# Altium schematic symbol library SMD_Passives.SchLib: 174 symbols (part 2 of 2)
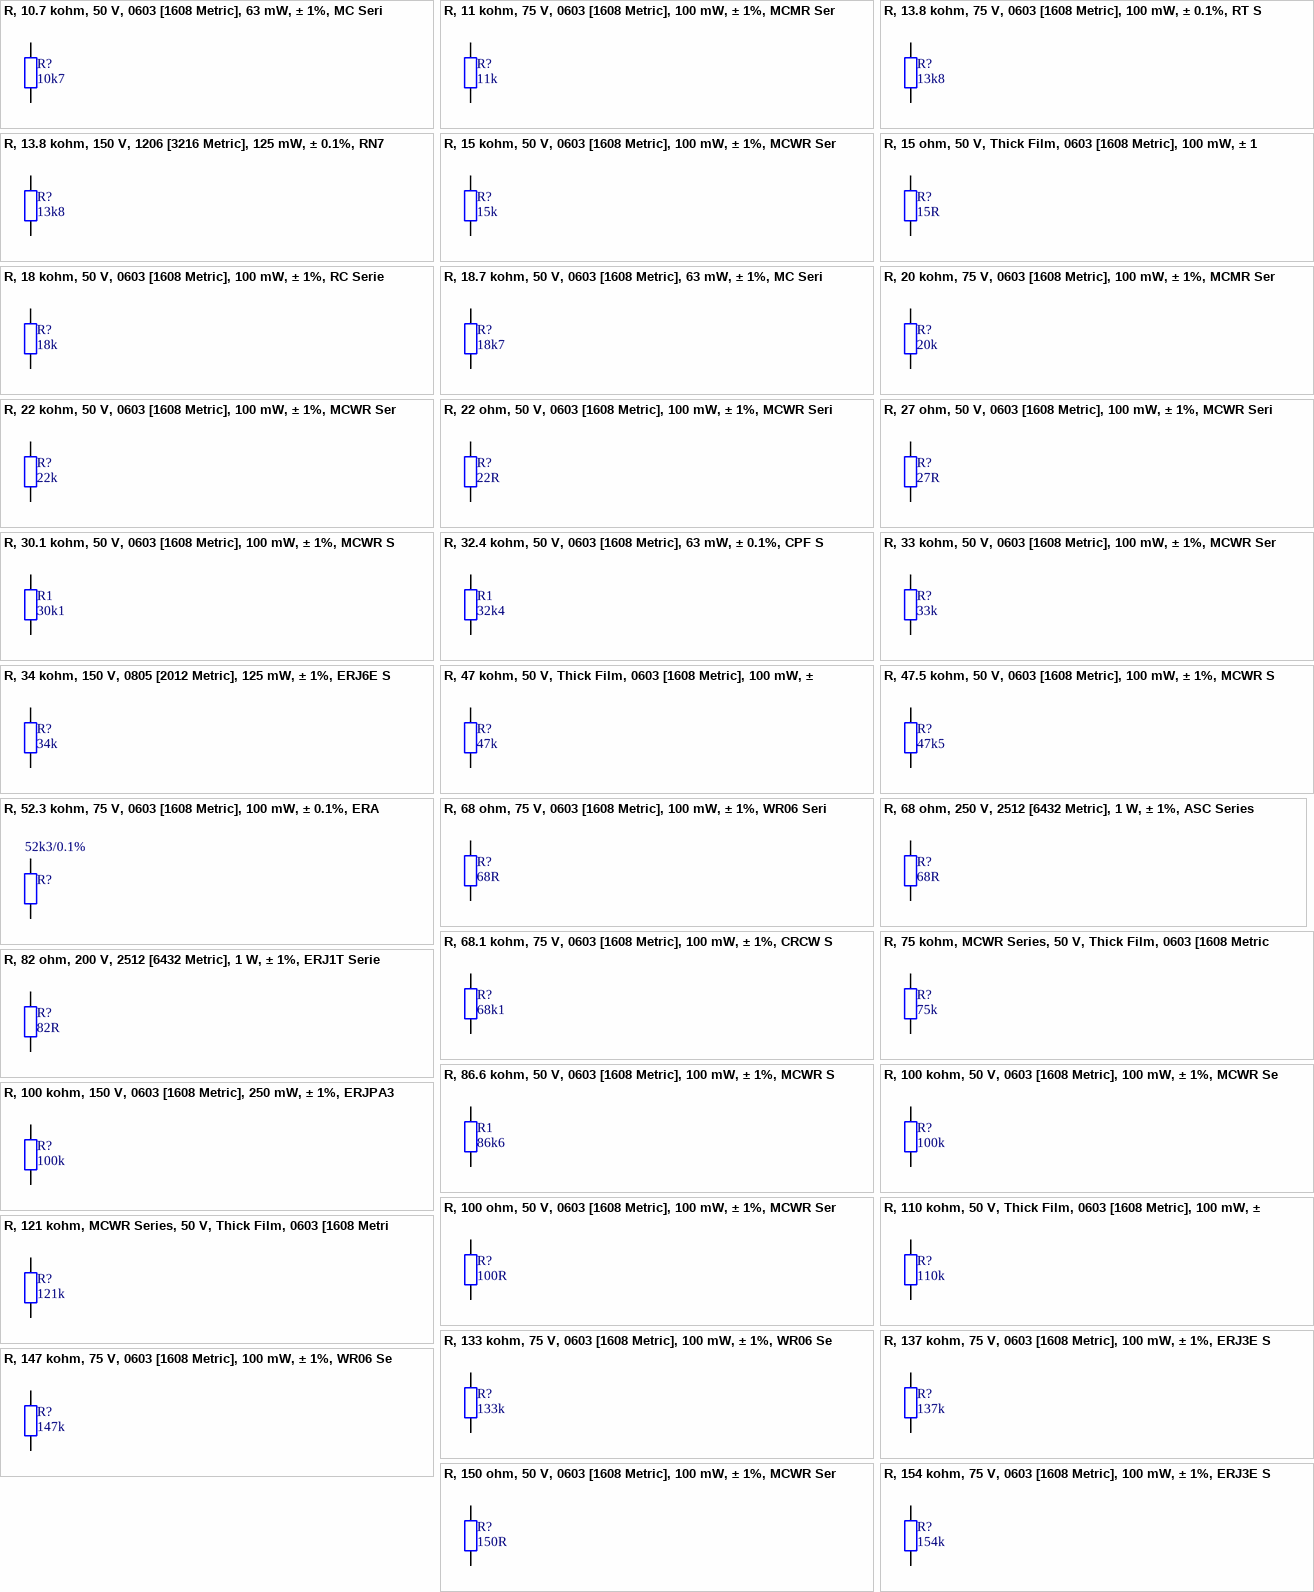
[diagram p5: symbols R, 10.7 kohm, 50 V, 0603 [1608 Metric], 63 mW, ± 1%, MC Series to R, 154 kohm, 75 V, 0603 [1608 Metric], 100 mW, ± 1%, ERJ3E Series]

## R, 18.7 kohm, 50 V, 0603 [1608 Metric], 63 mW, ± 1%, MC Series
designator R?, comment 18k7
SMD Chip Resistor, Thick Film, 18.7 kohm, 50 V, 0603 [1608 Metric], 63 mW, ± 1%, MC Series; MPN: MC0063W0603118K7; VoltageRating: 50V; Temp coefficient: *ppm; PowerRating: 100mW; MF: MULTICOMP; Precision: 1%; Resistance: 18k7
footprint R0402 (0402 resistor)
footprint R0603 (0603 resistor)
footprint R0805 (0805 resistor)
footprint R1206 (1206 resistor)
footprint R2512 (2512 resistor)
footprint R0201 (0201 resistor)
footprint R1210 (1210 resistor)
footprint R1812 (1812 resistor)
footprint R2010 (2010 resistor)
footprint R2512 (2512 resistor)
pins: 1, 2

## R, 20 kohm, 75 V, 0603 [1608 Metric], 100 mW, ± 1%, MCMR Series
designator R?, comment 20k
SMD Chip Resistor, Ceramic, 20 kohm, 75 V, 0603 [1608 Metric], 100 mW, ± 1%, MCMR Series; MPN: MCMR06X2002FTL; VoltageRating: 75V; Temp coefficient: *ppm; PowerRating: 100mW; MF: MULTICOMP; Precision: 1%; Supplier 1: Farnell; Supplier Part Number 1: 2073421; Resistance: 20k
footprint R0603 (0603 resistor)
pins: 1, 2

## R, 22 kohm, 50 V, 0603 [1608 Metric], 100 mW, ± 1%, MCWR Series
designator R?, comment 22k
SMD Chip Resistor, Thick Film, 22 kohm, 50 V, 0603 [1608 Metric], 100 mW, ± 1%, MCWR Series; MPN: MCWR06X2202FTL; VoltageRating: 50V; Temp coefficient: *ppm; PowerRating: 100mW; MF: MULTICOMP; Precision: 1%; Resistance: 22k
footprint R0603 (0603 resistor)
pins: 1, 2

## R, 22 ohm, 50 V, 0603 [1608 Metric], 100 mW, ± 1%, MCWR Series
designator R?, comment 22R
SMD Chip Resistor, Thick Film, 22 ohm, 50 V, 0603 [1608 Metric], 100 mW, ± 1%, MCWR Series; MPN: MCWR06X22R0FTL; VoltageRating: 50V; Temp coefficient: *ppm; PowerRating: 100mW; MF: MULTICOMP; Precision: 1%; Resistance: 22R
footprint R0603 (0603 resistor)
pins: 1, 2

## R, 27 ohm, 50 V, 0603 [1608 Metric], 100 mW, ± 1%, MCWR Series
designator R?, comment 27R
SMD Chip Resistor, Thick Film, 27 ohm, 50 V, 0603 [1608 Metric], 100 mW, ± 1%, MCWR Series; MPN: MCWR06X27R0FTL; VoltageRating: 50V; Temp coefficient: *ppm; PowerRating: 100mW; MF: MULTICOMP; Precision: 1%; Resistance: 27R
footprint R0402 (0402 resistor)
footprint R0603 (0603 resistor)
footprint R0805 (0805 resistor)
footprint R1206 (1206 resistor)
footprint R2512 (2512 resistor)
footprint R0201 (0201 resistor)
footprint R1210 (1210 resistor)
footprint R1812 (1812 resistor)
footprint R2010 (2010 resistor)
footprint R2512 (2512 resistor)
pins: 1, 2

## R, 30.1 kohm, 50 V, 0603 [1608 Metric], 100 mW, ± 1%, MCWR Series
designator R1, comment 30k1
SMD Chip Resistor, Thick Film, 30.1 kohm, 50 V, 0603 [1608 Metric], 100 mW, ± 1%, MCWR Series; MPN: MCWR06X3012FTL; VoltageRating: 50V; Temp coefficient: *ppm; PowerRating: 100mW; MF: MULTICOMP; Precision: 1%; Resistance: 30k1
footprint R0603 (0603 resistor)
pins: 1, 2

## R, 32.4 kohm, 50 V, 0603 [1608 Metric], 63 mW, ± 0.1%, CPF Series
designator R1, comment 32k4
SMD Chip Resistor, Thin Film, 32.4 kohm, 50 V, 0603 [1608 Metric], 63 mW, ± 0.1%, CPF Series; MPN: CPF0603B32K4E1; Precision: 1%; VoltageRating: 50V; Temp coefficient: *ppm; PowerRating: 63mW; MF: TE CONNECTIVITY; Resistance: 32k4
footprint R0603 (0603 resistor)
pins: 1, 2

## R, 33 kohm, 50 V, 0603 [1608 Metric], 100 mW, ± 1%, MCWR Series
designator R?, comment 33k
SMD Chip Resistor, Thick Film, 33 kohm, 50 V, 0603 [1608 Metric], 100 mW, ± 1%, MCWR Series; MPN: MCWR06X3302FTL; VoltageRating: 50V; Temp coefficient: *ppm; PowerRating: 100mW; MF: MULTICOMP; Precision: 1%; Resistance: 33k
footprint R0603 (0603 resistor)
pins: 1, 2

## R, 34 kohm, 150 V, 0805 [2012 Metric], 125 mW, ± 1%, ERJ6E Series
designator R?, comment 34k
SMD Chip Resistor, Thick Film, 34 kohm, 150 V, 0805 [2012 Metric], 125 mW, ± 1%, ERJ6E Series; MPN: ERJ6ENF3402V; VoltageRating: 150V; Temp coefficient: *ppm; PowerRating: 125mW; MF: PANASONIC ELECTRONIC COMPONENTS; Precision: 1%; Resistance: 34k
footprint R0805 (0805 resistor)
pins: 1, 2

## R, 47 kohm, 50 V, Thick Film, 0603 [1608 Metric], 100 mW, ± 1%
designator R?, comment 47k
SMD Chip Resistor, 47 kohm, 50 V, Thick Film, 0603 [1608 Metric], 100 mW, ± 1%; MPN: MCWR06X4702FTL; VoltageRating: 50V; Temp coefficient: *ppm; PowerRating: 100mW; MF: MULTICOMP; Precision: 1%; Resistance: 47k
footprint R0402 (0402 resistor)
footprint R0603 (0603 resistor)
footprint R0805 (0805 resistor)
footprint R1206 (1206 resistor)
footprint R2512 (2512 resistor)
footprint R0201 (0201 resistor)
footprint R1210 (1210 resistor)
footprint R1812 (1812 resistor)
footprint R2010 (2010 resistor)
footprint R2512 (2512 resistor)
pins: 1, 2

## R, 47.5 kohm, 50 V, 0603 [1608 Metric], 100 mW, ± 1%, MCWR Series
designator R?, comment 47k5
SMD Chip Resistor, Thick Film, 47.5 kohm, 50 V, 0603 [1608 Metric], 100 mW, ± 1%, MCWR Series; MPN: MCWR06X4752FTL; VoltageRating: 50V; Temp coefficient: *ppm; PowerRating: 100mW; MF: MULTICOMP; Precision: 1%; Resistance: 47k5
footprint R0402 (0402 resistor)
footprint R0603 (0603 resistor)
footprint R0805 (0805 resistor)
footprint R1206 (1206 resistor)
footprint R2512 (2512 resistor)
footprint R0201 (0201 resistor)
footprint R1210 (1210 resistor)
footprint R1812 (1812 resistor)
footprint R2010 (2010 resistor)
footprint R2512 (2512 resistor)
pins: 1, 2

## R, 52.3 kohm, 75 V, 0603 [1608 Metric], 100 mW, ± 0.1%, ERA Series
designator R?, comment 52k3/0.1%
SMD Chip Resistor, Thin Film, 52.3 kohm, 75 V, 0603 [1608 Metric], 100 mW, ± 0.1%, ERA Series; MPN: ERA3ARB5232V; VoltageRating: 75V; Temp coefficient: *ppm; PowerRating: 100mW; MF: PANASONIC ELECTRONIC COMPONENTS; Resistance: 52k3; Precision: 0.1%
footprint R0402 (0402 resistor)
footprint R0603 (0603 resistor)
footprint R0805 (0805 resistor)
footprint R1206 (1206 resistor)
footprint R2512 (2512 resistor)
footprint R0201 (0201 resistor)
footprint R1210 (1210 resistor)
footprint R1812 (1812 resistor)
footprint R2010 (2010 resistor)
footprint R2512 (2512 resistor)
pins: 1, 2

## R, 68 ohm, 75 V, 0603 [1608 Metric], 100 mW, ± 1%, WR06 Series
designator R?, comment 68R
SMD Chip Resistor, 68 ohm, 75 V, 0603 [1608 Metric], 100 mW, ± 1%, WR06 Series; MPN: WR06X68R0FTL; VoltageRating: 75V; Temp coefficient: *ppm; PowerRating: 100mW; MF: WALSIN; Precision: 1%; Resistance: 68R
footprint R0402 (0402 resistor)
footprint R0603 (0603 resistor)
footprint R0805 (0805 resistor)
footprint R1206 (1206 resistor)
footprint R2512 (2512 resistor)
footprint R0201 (0201 resistor)
footprint R1210 (1210 resistor)
footprint R1812 (1812 resistor)
footprint R2010 (2010 resistor)
footprint R2512 (2512 resistor)
pins: 1, 2

## R, 68 ohm, 250 V, 2512 [6432 Metric], 1 W, ± 1%, ASC Series
designator R?, comment 68R
SMD Chip Resistor, Thick Film, 68 ohm, 250 V, 2512 [6432 Metric], 1 W, ± 1%, ASC Series; MPN: ASC2512-68RFT4; VoltageRating: 250V; Temp coefficient: *ppm; PowerRating: 1W; MF: WELWYN; Precision: 1%; Resistance: 68R
footprint R2512 (2512 resistor)
pins: 1, 2

## R, 68.1 kohm, 75 V, 0603 [1608 Metric], 100 mW, ± 1%, CRCW Series
designator R?, comment 68k1
SMD Chip Resistor, Thick Film, 68.1 kohm, 75 V, 0603 [1608 Metric], 100 mW, ± 1%, CRCW Series; MPN: CRCW060368K1FKEA.; VoltageRating: 75V; Temp coefficient: *ppm; PowerRating: 100mW; MF: VISHAY; Precision: 1%; Resistance: 68k1
footprint R0402 (0402 resistor)
footprint R0603 (0603 resistor)
footprint R0805 (0805 resistor)
footprint R1206 (1206 resistor)
footprint R2512 (2512 resistor)
footprint R0201 (0201 resistor)
footprint R1210 (1210 resistor)
footprint R1812 (1812 resistor)
footprint R2010 (2010 resistor)
footprint R2512 (2512 resistor)
pins: 1, 2

## R, 75 kohm, MCWR Series, 50 V, Thick Film, 0603 [1608 Metric], 100 mW
designator R?, comment 75k
SMD Chip Resistor, 75 kohm, MCWR Series, 50 V, Thick Film, 0603 [1608 Metric], 100 mW; MPN: MCWR06X7502FTL; Precision: 1%; VoltageRating: 50V; PowerRating: 100mW; MF: MULTICOMP; Resistance: 75k
footprint R0603 (0603 resistor)
pins: 1, 2

## R, 82 ohm, 200 V, 2512 [6432 Metric], 1 W, ± 1%, ERJ1T Series
designator R?, comment 82R
SMD Chip Resistor, Thick Film, 82 ohm, 200 V, 2512 [6432 Metric], 1 W, ± 1%, ERJ1T Series; MPN: ERJ1TNF82R0U; VoltageRating: 200V; Temp coefficient: *ppm; PowerRating: 1W; MF: PANASONIC ELECTRONIC COMPONENTS; Precision: 1%; Resistance: 82R
footprint R2512 (2512 resistor)
pins: 1, 2

## R, 86.6 kohm, 50 V, 0603 [1608 Metric], 100 mW, ± 1%, MCWR Series
designator R1, comment 86k6
SMD Chip Resistor, Thick Film, 86.6 kohm, 50 V, 0603 [1608 Metric], 100 mW, ± 1%, MCWR Series; MPN: MCWR06X8662FTL; VoltageRating: 50V; Temp coefficient: *ppm; PowerRating: 100mW; MF: MULTICOMP; Precision: 1%; Resistance: 86k6
footprint R0603 (0603 resistor)
pins: 1, 2

## R, 100 kohm, 50 V, 0603 [1608 Metric], 100 mW, ± 1%, MCWR Series
designator R?, comment 100k
SMD Chip Resistor, Thick Film, 100 kohm, 50 V, 0603 [1608 Metric], 100 mW, ± 1%, MCWR Series; MPN: MCWR06X1003FTL; Temp coefficient: *ppm; MF: MULTICOMP; Precision: 1%; Resistance: 100k
footprint R0603 (0603 resistor)
pins: 1, 2

## R, 100 kohm, 150 V, 0603 [1608 Metric], 250 mW, ± 1%, ERJPA3 Series
designator R?, comment 100k
SMD Chip Resistor, Thick Film, 100 kohm, 150 V, 0603 [1608 Metric], 250 mW, ± 1%, ERJPA3 Series; MPN: ERJPA3F1003V; VoltageRating: 150V; Temp coefficient: *ppm; PowerRating: 250mW; MF: PANASONIC ELECTRONIC COMPONENTS; Precision: 1%; Resistance: 100k
footprint R0603 (0603 resistor)
pins: 1, 2

## R, 100 ohm, 50 V, 0603 [1608 Metric], 100 mW, ± 1%, MCWR Series
designator R?, comment 100R
SMD Chip Resistor, Thick Film, 100 ohm, 50 V, 0603 [1608 Metric], 100 mW, ± 1%, MCWR Series; MPN: MCWR06X1000FTL; VoltageRating: 50V; Temp coefficient: *ppm; PowerRating: 100mW; MF: MULTICOMP; Precision: 1%; Resistance: 100R
footprint R0603 (0603 resistor)
pins: 1, 2

## R, 110 kohm, 50 V, Thick Film, 0603 [1608 Metric], 100 mW, ± 1%
designator R?, comment 110k
SMD Chip Resistor, 110 kohm, 50 V, Thick Film, 0603 [1608 Metric], 100 mW, ± 1%; MPN: MCWR06X1103FTL; VoltageRating: 50V; Temp coefficient: *ppm; PowerRating: 100mW; MF: MULTICOMP; Precision: 1%; Resistance: 110k
footprint R0603 (0603 resistor)
pins: 1, 2

## R, 121 kohm, MCWR Series, 50 V, Thick Film, 0603 [1608 Metric], 100 mW
designator R?, comment 121k
SMD Chip Resistor, 121 kohm, MCWR Series, 50 V, Thick Film, 0603 [1608 Metric], 100 mW; MPN: MCWR06X1213FTL; Precision: 1%; VoltageRating: 50V; PowerRating: 100mW; MF: MULTICOMP; Resistance: 121k
footprint R0603 (0603 resistor)
pins: 1, 2

## R, 133 kohm, 75 V, 0603 [1608 Metric], 100 mW, ± 1%, WR06 Series
designator R?, comment 133k
SMD Chip Resistor, 133 kohm, 75 V, 0603 [1608 Metric], 100 mW, ± 1%, WR06 Series; MPN: MCMR06X1653FTL; VoltageRating: 75V; Temp coefficient: *ppm; PowerRating: 100mW; MF: WALSIN; Precision: 1%; Resistance: 133k
footprint R0402 (0402 resistor)
footprint R0603 (0603 resistor)
footprint R0805 (0805 resistor)
footprint R1206 (1206 resistor)
footprint R2512 (2512 resistor)
footprint R0201 (0201 resistor)
footprint R1210 (1210 resistor)
footprint R1812 (1812 resistor)
footprint R2010 (2010 resistor)
footprint R2512 (2512 resistor)
pins: 1, 2

## R, 137 kohm, 75 V, 0603 [1608 Metric], 100 mW, ± 1%, ERJ3E Series
designator R?, comment 137k
SMD Chip Resistor, Thick Film, 137 kohm, 75 V, 0603 [1608 Metric], 100 mW, ± 1%, ERJ3E Series; MPN: ERJ3EKF1373V; VoltageRating: 75V; Temp coefficient: *ppm; PowerRating: 100mW; MF: PANASONIC ELECTRONIC COMPONENTS; Precision: 1%; Resistance: 137k
footprint R0603 (0603 resistor)
pins: 1, 2

## R, 147 kohm, 75 V, 0603 [1608 Metric], 100 mW, ± 1%, WR06 Series
designator R?, comment 147k
SMD Chip Resistor, 147 kohm, 75 V, 0603 [1608 Metric], 100 mW, ± 1%, WR06 Series; MPN: WR06X1473FTL; VoltageRating: 75V; Temp coefficient: *ppm; PowerRating: 100mW; MF: WALSIN; Precision: 1%; Resistance: 147k
footprint R0402 (0402 resistor)
footprint R0603 (0603 resistor)
footprint R0805 (0805 resistor)
footprint R1206 (1206 resistor)
footprint R2512 (2512 resistor)
footprint R0201 (0201 resistor)
footprint R1210 (1210 resistor)
footprint R1812 (1812 resistor)
footprint R2010 (2010 resistor)
footprint R2512 (2512 resistor)
pins: 1, 2

## R, 150 ohm, 50 V, 0603 [1608 Metric], 100 mW, ± 1%, MCWR Series
designator R?, comment 150R
SMD Chip Resistor, Thick Film, 150 ohm, 50 V, 0603 [1608 Metric], 100 mW, ± 1%, MCWR Series; MPN: MCWR06X1500FTL; VoltageRating: 50V; Temp coefficient: *ppm; PowerRating: 100mW; MF: MULTICOMP; Precision: 1%; Resistance: 150R
footprint R0603 (0603 resistor)
pins: 1, 2

## R, 154 kohm, 75 V, 0603 [1608 Metric], 100 mW, ± 1%, ERJ3E Series
designator R?, comment 154k
SMD Chip Resistor, Thick Film, 154 kohm, 75 V, 0603 [1608 Metric], 100 mW, ± 1%, ERJ3E Series; MPN: ERJ3EKF1543V; VoltageRating: 75V; Temp coefficient: *ppm; PowerRating: 100mW; MF: PANASONIC ELECTRONIC COMPONENTS; Precision: 1%; Resistance: 154k
footprint R0402 (0402 resistor)
footprint R0603 (0603 resistor)
footprint R0805 (0805 resistor)
footprint R1206 (1206 resistor)
footprint R2512 (2512 resistor)
footprint R0201 (0201 resistor)
footprint R1210 (1210 resistor)
footprint R1812 (1812 resistor)
footprint R2010 (2010 resistor)
footprint R2512 (2512 resistor)
pins: 1, 2

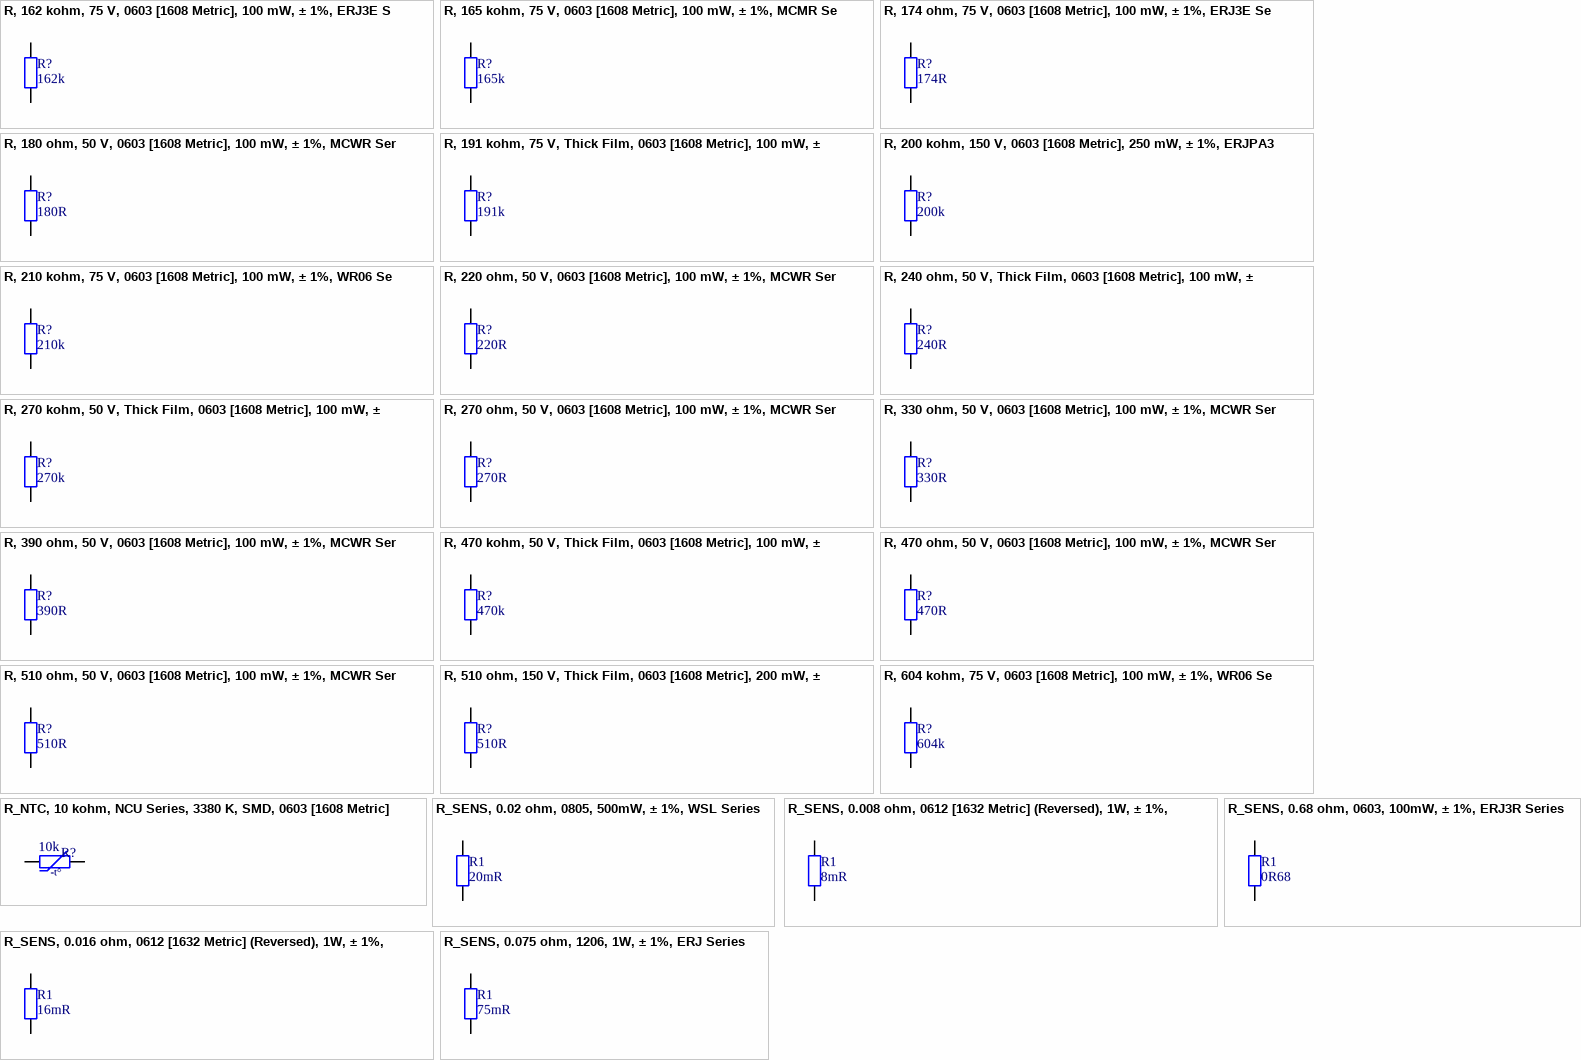
[diagram p4: symbols R, 162 kohm, 75 V, 0603 [1608 Metric], 100 mW, ± 1%, ERJ3E Series to R_SENS, 0.075 ohm, 1206, 1W, ± 1%, ERJ Series]

## R, 162 kohm, 75 V, 0603 [1608 Metric], 100 mW, ± 1%, ERJ3E Series
designator R?, comment 162k
SMD Chip Resistor, Thick Film, 162 kohm, 75 V, 0603 [1608 Metric], 100 mW, ± 1%, ERJ3E Series; MPN: ERJ3EKF1623V; VoltageRating: 75V; Temp coefficient: *ppm; PowerRating: 100mW; MF: PANASONIC ELECTRONIC COMPONENTS; Precision: 1%; Resistance: 162k
footprint R0603 (0603 resistor)
pins: 1, 2

## R, 165 kohm, 75 V, 0603 [1608 Metric], 100 mW, ± 1%, MCMR Series
designator R?, comment 165k
SMD Chip Resistor, Ceramic, 165 kohm, 75 V, 0603 [1608 Metric], 100 mW, ± 1%, MCMR Series; MPN: MCMR06X1653FTL; VoltageRating: 75V; Temp coefficient: *ppm; PowerRating: 100mW; MF: MULTICOMP; Precision: 1%; Resistance: 165k
footprint R0402 (0402 resistor)
footprint R0603 (0603 resistor)
footprint R0805 (0805 resistor)
footprint R1206 (1206 resistor)
footprint R2512 (2512 resistor)
footprint R0201 (0201 resistor)
footprint R1210 (1210 resistor)
footprint R1812 (1812 resistor)
footprint R2010 (2010 resistor)
footprint R2512 (2512 resistor)
pins: 1, 2

## R, 174 ohm, 75 V, 0603 [1608 Metric], 100 mW, ± 1%, ERJ3E Series
designator R?, comment 174R
SMD Chip Resistor, Thick Film, 10 ohm, 50 V, 0603 [1608 Metric], 100 mW, ± 1%, MCWR Series; MPN: ERJ3EKF1740V; VoltageRating: 75V; Temp coefficient: *ppm; PowerRating: 100mW; MF: PANASONIC ELECTRONIC COMPONENTS; Precision: 1%; Resistance: 174R
footprint R0402 (0402 resistor)
footprint R0603 (0603 resistor)
footprint R0805 (0805 resistor)
footprint R1206 (1206 resistor)
footprint R2512 (2512 resistor)
footprint R0201 (0201 resistor)
footprint R1210 (1210 resistor)
footprint R1812 (1812 resistor)
footprint R2010 (2010 resistor)
footprint R2512 (2512 resistor)
pins: 1, 2

## R, 180 ohm, 50 V, 0603 [1608 Metric], 100 mW, ± 1%, MCWR Series
designator R?, comment 180R
SMD Chip Resistor, Thick Film, 180 ohm, 50 V, 0603 [1608 Metric], 100 mW, ± 1%, MCWR Series; MPN: MCWR06X1800FTL; VoltageRating: 50V; Temp coefficient: *ppm; PowerRating: 100mW; MF: MULTICOMP; Precision: 1%; Resistance: 180R
footprint R0603 (0603 resistor)
pins: 1, 2

## R, 191 kohm, 75 V, Thick Film, 0603 [1608 Metric], 100 mW, ± 1%
designator R?, comment 191k
SMD Chip Resistor, 191 kohm, 75 V, Thick Film, 0603 [1608 Metric], 100 mW, ± 1%; MPN: ERJ3EKF1913V; VoltageRating: 75V; Temp coefficient: *ppm; PowerRating: 100mW; MF: PANASONIC ELECTRONIC COMPONENTS; Precision: 1%; Resistance: 191k
footprint R0402 (0402 resistor)
footprint R0603 (0603 resistor)
footprint R0805 (0805 resistor)
footprint R1206 (1206 resistor)
footprint R2512 (2512 resistor)
footprint R0201 (0201 resistor)
footprint R1210 (1210 resistor)
footprint R1812 (1812 resistor)
footprint R2010 (2010 resistor)
footprint R2512 (2512 resistor)
pins: 1, 2

## R, 200 kohm, 150 V, 0603 [1608 Metric], 250 mW, ± 1%, ERJPA3 Series
designator R?, comment 200k
SMD Chip Resistor, Thick Film, 200 kohm, 150 V, 0603 [1608 Metric], 250 mW, ± 1%, ERJPA3 Series; MPN: ERJPA3F2003V; VoltageRating: 150V; Temp coefficient: *ppm; PowerRating: 250mW; MF: PANASONIC ELECTRONIC COMPONENTS; Precision: 1%; Resistance: 200k
footprint R0402 (0402 resistor)
footprint R0603 (0603 resistor)
footprint R0805 (0805 resistor)
footprint R1206 (1206 resistor)
footprint R2512 (2512 resistor)
footprint R0201 (0201 resistor)
footprint R1210 (1210 resistor)
footprint R1812 (1812 resistor)
footprint R2010 (2010 resistor)
footprint R2512 (2512 resistor)
pins: 1, 2

## R, 210 kohm, 75 V, 0603 [1608 Metric], 100 mW, ± 1%, WR06 Series
designator R?, comment 210k
SMD Chip Resistor, 210 kohm, 75 V, 0603 [1608 Metric], 100 mW, ± 1%, WR06 Series; MPN: WR06X2103FTL; VoltageRating: 75V; Temp coefficient: *ppm; PowerRating: 100mW; MF: WALSIN; Precision: 1%; Resistance: 210k
footprint R0603 (0603 resistor)
pins: 1, 2

## R, 220 ohm, 50 V, 0603 [1608 Metric], 100 mW, ± 1%, MCWR Series
designator R?, comment 220R
SMD Chip Resistor, Thick Film, 220 ohm, 50 V, 0603 [1608 Metric], 100 mW, ± 1%, MCWR Series; MPN: MCWR06X2200FTL; VoltageRating: 50V; Temp coefficient: *ppm; PowerRating: 100mW; MF: MULTICOMP; Precision: 1%; Resistance: 220R
footprint R0603 (0603 resistor)
pins: 1, 2

## R, 240 ohm, 50 V, Thick Film, 0603 [1608 Metric], 100 mW, ± 1%
designator R?, comment 240R
SMD Chip Resistor, 240 ohm, 50 V, Thick Film, 0603 [1608 Metric], 100 mW, ± 1%; MPN: MCWR06X2400FTL; VoltageRating: 50V; Temp coefficient: *ppm; PowerRating: 100mW; MF: MULTICOMP; Precision: 1%; Resistance: 240R
footprint R0402 (0402 resistor)
footprint R0603 (0603 resistor)
footprint R0805 (0805 resistor)
footprint R1206 (1206 resistor)
footprint R2512 (2512 resistor)
footprint R0201 (0201 resistor)
footprint R1210 (1210 resistor)
footprint R1812 (1812 resistor)
footprint R2010 (2010 resistor)
footprint R2512 (2512 resistor)
pins: 1, 2

## R, 270 kohm, 50 V, Thick Film, 0603 [1608 Metric], 100 mW, ± 1%
designator R?, comment 270k
SMD Chip Resistor, 270 kohm, 50 V, Thick Film, 0603 [1608 Metric], 100 mW, ± 1%; MPN: MCWR06X2703FTL; VoltageRating: 50V; PowerRating: 100mW; MF: MULTICOMP; Precision: 1%; Resistance: 270k
footprint R0603 (0603 resistor)
pins: 1, 2

## R, 270 ohm, 50 V, 0603 [1608 Metric], 100 mW, ± 1%, MCWR Series
designator R?, comment 270R
SMD Chip Resistor, Thick Film, 270 ohm, 50 V, 0603 [1608 Metric], 100 mW, ± 1%, MCWR Series; MPN: MCWR06X2700FTL; VoltageRating: 50V; PowerRating: 100mW; MF: MULTICOMP; Precision: 1%; Resistance: 270R
footprint R0603 (0603 resistor)
pins: 1, 2

## R, 330 ohm, 50 V, 0603 [1608 Metric], 100 mW, ± 1%, MCWR Series
designator R?, comment 330R
SMD Chip Resistor, Thick Film, 330 ohm, 50 V, 0603 [1608 Metric], 100 mW, ± 1%, MCWR Series; MPN: MCWR06X3900FTL; VoltageRating: 50V; Temp coefficient: *ppm; PowerRating: 100mW; MF: MULTICOMP; Precision: 1%; Resistance: 330R
footprint R0603 (0603 resistor)
pins: 1, 2

## R, 390 ohm, 50 V, 0603 [1608 Metric], 100 mW, ± 1%, MCWR Series
designator R?, comment 390R
SMD Chip Resistor, Thick Film, 390 ohm, 50 V, 0603 [1608 Metric], 100 mW, ± 1%, MCWR Series; MPN: MCWR06X3900FTL; VoltageRating: 50V; Temp coefficient: *ppm; PowerRating: 100mW; MF: MULTICOMP; Precision: 1%; Resistance: 390R
footprint R0603 (0603 resistor)
pins: 1, 2

## R, 470 kohm, 50 V, Thick Film, 0603 [1608 Metric], 100 mW, ± 1%
designator R?, comment 470k
SMD Chip Resistor, 470 kohm, 50 V, Thick Film, 0603 [1608 Metric], 100 mW, ± 1%; MPN: MCWR06X4703FTL; VoltageRating: 50V; Temp coefficient: *ppm; PowerRating: 100mW; MF: MULTICOMP; Precision: 1%; Resistance: 470k
footprint R0402 (0402 resistor)
footprint R0603 (0603 resistor)
footprint R0805 (0805 resistor)
footprint R1206 (1206 resistor)
footprint R2512 (2512 resistor)
footprint R0201 (0201 resistor)
footprint R1210 (1210 resistor)
footprint R1812 (1812 resistor)
footprint R2010 (2010 resistor)
footprint R2512 (2512 resistor)
pins: 1, 2

## R, 470 ohm, 50 V, 0603 [1608 Metric], 100 mW, ± 1%, MCWR Series
designator R?, comment 470R
SMD Chip Resistor, Thick Film, 470 ohm, 50 V, 0603 [1608 Metric], 100 mW, ± 1%, MCWR Series; MPN: MCWR06X4700FTL; VoltageRating: 50V; Temp coefficient: *ppm; PowerRating: 100mW; MF: MULTICOMP; Precision: 1%; Resistance: 470R
footprint R0603 (0603 resistor)
pins: 1, 2

## R, 510 ohm, 50 V, 0603 [1608 Metric], 100 mW, ± 1%, MCWR Series
designator R?, comment 510R
SMD Chip Resistor, Thick Film, 510 ohm, 50 V, 0603 [1608 Metric], 100 mW, ± 1%, MCWR Series; MPN: MCWR06X5100FTL; VoltageRating: 50V; Temp coefficient: *ppm; PowerRating: 100mW; MF: MULTICOMP; Precision: 1%; Resistance: 510R
footprint R0603 (0603 resistor)
pins: 1, 2

## R, 510 ohm, 150 V, Thick Film, 0603 [1608 Metric], 200 mW, ± 1%
designator R?, comment 510R
SMD Chip Resistor, 510 ohm, 150 V, Thick Film, 0603 [1608 Metric], 200 mW, ± 1%; MPN: ERJP03F5100V; VoltageRating: 150V; Temp coefficient: *ppm; PowerRating: 200mW; MF: PANASONIC ELECTRONIC COMPONENTS; Precision: 1%; Resistance: 510R
footprint R0603 (0603 resistor)
pins: 1, 2

## R, 604 kohm, 75 V, 0603 [1608 Metric], 100 mW, ± 1%, WR06 Series
designator R?, comment 604k
SMD Chip Resistor, 604 kohm, 75 V, 0603 [1608 Metric], 100 mW, ± 1%, WR06 Series; MPN: WR06X6043FTL; VoltageRating: 75V; Temp coefficient: *ppm; PowerRating: 100mW; MF: WALSIN; Precision: 1%; Resistance: 604k
footprint R0402 (0402 resistor)
footprint R0603 (0603 resistor)
footprint R0805 (0805 resistor)
footprint R1206 (1206 resistor)
footprint R2512 (2512 resistor)
footprint R0201 (0201 resistor)
footprint R1210 (1210 resistor)
footprint R1812 (1812 resistor)
footprint R2010 (2010 resistor)
footprint R2512 (2512 resistor)
pins: 1, 2

## R_NTC, 10 kohm, NCU Series, 3380 K, SMD, 0603 [1608 Metric]
designator R?, comment Resistance: 10k  (hidden comment: 10k NTC)
Thermistor, NTC, 10 kohm, NCU Series, 3380 K, SMD, 0603 [1608 Metric]; MPN: MCMR06X1653FTL; Precision: 1%; Beta Value: 3380K; Temp coefficient: *ppm; MF: MULTICOMP
footprint R0402 (0402 resistor)
footprint R0603 (0603 resistor)
footprint R0805 (0805 resistor)
footprint R1206 (1206 resistor)
footprint R2512 (2512 resistor)
footprint R0201 (0201 resistor)
footprint R1210 (1210 resistor)
footprint R1812 (1812 resistor)
footprint R2010 (2010 resistor)
footprint R2512 (2512 resistor)
pins: 1, 2
text: -t°

## R_SENS, 0.02 ohm, 0805, 500mW, ± 1%, WSL Series
designator R1, comment 20mR
METAL STRIP RESISTOR, 0.02 OHM, 500mW, 805, 1%; MPN: WSLP0805R0200FEA; Temp coefficient: *ppm; MF: VISHAY; Precision: 1%; PowerRating: 500mW; Resistance: 20mR
footprint R0805 (0805 resistor)
pins: 1, 2

## R_SENS, 0.008 ohm, 0612 [1632 Metric] (Reversed), 1W, ± 1%, PRL Series
designator R1, comment 8mR
SMD Chip Resistor, Thick Film, Current Sense Resistors - SMD 1W 0.008ohm 1%; MPN: PRL1632-R008-F-T1; VoltageRating: 50V; Temp coefficient: *ppm; MF: SUSUMU; Precision: 1%; PowerRating: 1W; Resistance: 8mR
footprint 0612 (Reversed) (Chip Resistor, 2-Leads, Body 1,60x3,20mm, IPC Medium Density)
pins: 1, 2

## R_SENS, 0.016 ohm, 0612 [1632 Metric] (Reversed), 1W, ± 1%, PRL Series
designator R1, comment 16mR
SMD Chip Resistor, Thick Film, Current Sense Resistors - SMD 1W 0.016ohm 1%; MPN: MCWR06X1004FTL; VoltageRating: 50V; Temp coefficient: *ppm; MF: MULTICOMP; Precision: 1%; PowerRating: 1W; Resistance: 16mR
footprint 0612 (Reversed) (Chip Resistor, 2-Leads, Body 1,60x3,20mm, IPC Medium Density)
pins: 1, 2

## R_SENS, 0.68 ohm, 0603, 100mW, ± 1%, ERJ3R Series
designator R1, comment 0R68
SMD Current Sense Resistor, 0.68 ohm, ERJ3R Series, 0603 [1608 Metric], 100 mW, ± 1%, Thick Film; MPN: ERJ3RQFR68V; Temp coefficient: *ppm; PowerRating: 100mW; MF: Panasonic Electronic Components; Precision: 1%; Resistance: 0R68
footprint R0603 (0603 resistor)
pins: 1, 2

## R_SENS, 0.075 ohm, 1206, 1W, ± 1%, ERJ Series
designator R1, comment 75mR
SMD Chip Resistor, Thick Film, Current Sense Resistors - SMD 1W 0.075ohm 1%; MPN: ERJ-8BWFR075V; VoltageRating: 50V; Temp coefficient: *ppm; MF: Panasonic Electronic Components; Precision: 1%; PowerRating: 1W; Resistance: 75mR
footprint R1206 (1206 resistor)
pins: 1, 2